# Altium footprint library MacroPad_PcbLibrary.PcbLib: 4 footprints
Each footprint in its own frame and in the unit in brackets; x right, y up, seen from the top. Pads: shape width x height; smd on the part's side, far side on the other; paste and mask are expansions set on the pad; w line width, h text height; cw(c..) or ccw(c..) is an arc to the next point about the centre after c.
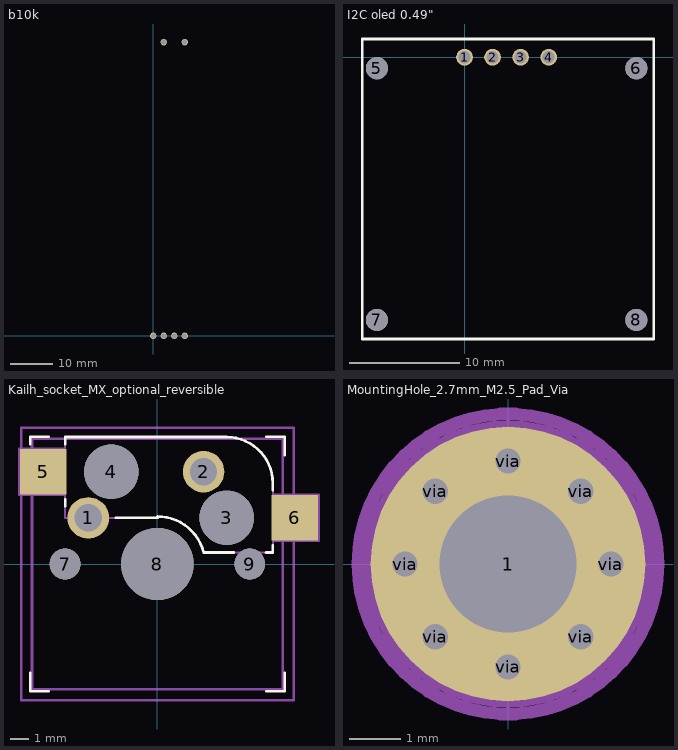
[diagram p0: the footprints below, top view; thin cyan lines are the x and y axes]

## b10k [mm] "b10k"
pads (6):
  round 1.524 hole 1.2: 1(0,0) 2(2.5,0) 3(5,0) 4(7.5,0) 5(2.5,70) 6(7.5,70)
3D body "potentio_assem_asm.stp": height 22.2, standoff -3.25, extent -0.75,-2.5 8.25,72.5

## I2C oled 0.49" [mm]
pads (8):
  round 1.524 hole 1.1: 1(0,0) 2(2.54,0) 3(5.08,0) 4(7.62,0)
  round 2 hole 2 unplated: 5(-7.94,-1) 6(15.56,-1) 7(-7.94,-23.8) 8(15.56,-23.8)
Top Overlay:
  lines w0.254: -9.271,-25.527 17.145,-25.527 17.145,1.651 -9.271,1.651 -9.271,-25.527
3D body "SSD1306_OLED_Display(128x64).step": height 6.3, standoff -5.5, extent -8.763,-25.1 16.637,1.1

## Kailh_socket_MX_optional_reversible [mil]
pads (9):
  round 90 hole 59: 1(-150,100) 2(100,200)
  round 118.11 hole 118.11: 3(150,100) 4(-100,200)
  rect 100.39x98.43 smd: 5(-247.64,200) 6(297.64,100)
  round 67 hole 67 unplated: 7(-200,0) 9(200,0)
  round 157 hole 157 unplated: 8(0,0)
Top Overlay:
  lines w5.91: -275.59,-236.22 -275.59,-275.59 -236.22,-275.59 ; -275.59,260 -275.59,275.59 -236.22,275.59 ; -200,125 -200,140 ; -200,260 -200,275 150,275 cw(c150,175) 250,175 250,160 ; -90,100 0,100 ; 0,103.08 cw(c0,0) 100,25 165,25 ; 235,25 250,25 250,40 ; 236.22,-275.59 275.59,-275.59 275.59,-236.22 ; 236.22,275.59 275.59,275.59 275.59,236.22
Bottom Overlay:
  lines w5.91: -275.59,-260 -275.59,-275.59 -236.22,-275.59 ; -275.59,236.22 -275.59,275.59 -236.22,275.59 ; 236.22,-275.59 275.59,-275.59 275.59,-236.22 ; 236.22,275.59 275.59,275.59 275.59,236.22
Mechanical 5:
  lines w5.91: -295.28,-295.28 -295.28,295.28 295.28,295.28 295.28,-295.28 -295.28,-295.28
Mechanical 6:
  lines w4.72: -200,150 -300,150 -300,250 -200,250 ; 0,100 -200,100 -200,275 150,275 cw(c150,175) 250,175 250,25 100,25 ccw(c0,0) 0,103.08 ; 250,50 350,50 350,150 250,150
  lines w5.91: -295.28,-295.28 295.28,-295.28 295.28,295.28 -295.28,295.28 -295.28,-295.28
Mechanical 9:
  lines w5.91: -271.65,-271.65 -271.65,271.65 271.65,271.65 271.65,-271.65 -271.65,-271.65
3D body "Kailh Hotswap MX v22.step": height 70.87, standoff -55.91, extent -260.83,25.59 310.83,259.84
3D body "MX .STEP": height 137.8, standoff -606.3, extent -309.17,-307.09 305,307.09

## MountingHole_2.7mm_M2.5_Pad_Via [mm]
pads (9):
  round 5.4 hole 2.7: 1(0,0)
  round 0.8 hole 0.5: via(-2.025,0) via(-1.432,-1.432) via(-1.432,1.432) via(0,-2.025) via(0,2.025) via(1.432,-1.432) via(1.432,1.432) via(2.025,0)
Mechanical 4:
  circle w0.254: c0,0 r2.95
Mechanical 6:
  text "'.Designator'" at -4.047,-0.84 h1
Mechanical 7:
  circle w0.254: c0,0 r2.7